# Altium schematic symbol library DEV_Modules.SchLib: 2 symbols
Pins are listed as number, name and electrical type; pins without a type are passive.

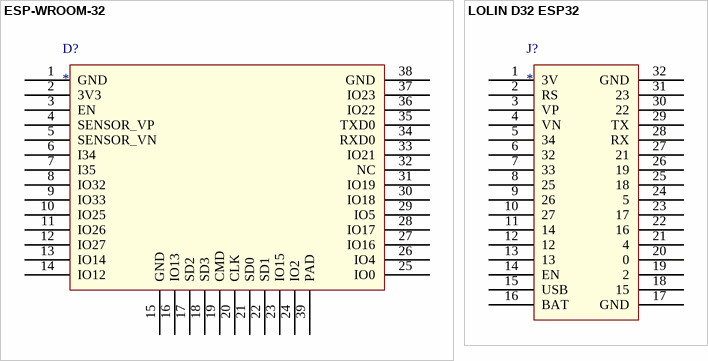
[diagram p0: symbols ESP-WROOM-32 to LOLIN D32 ESP32]

## ESP-WROOM-32
designator D?
ESP32 Module
footprint ESP-WROOM-32 (OEM_Module)
pins: 1 GND, 2 3V3, 3 EN, 4 SENSOR_VP, 5 SENSOR_VN, 6 I34, 7 I35, 8 IO32, 9 IO33, 10 IO25, 11 IO26, 12 IO27, 13 IO14, 14 IO12, 15 GND, 16 IO13, 17 SD2, 18 SD3, 19 CMD, 20 CLK, 21 SD0, 22 SD1, 23 IO15, 24 IO2, 25 IO0, 26 IO4, 27 IO16, 28 IO17, 29 IO5, 30 IO18, 31 IO19, 32 NC, 33 IO21, 34 RXD0, 35 TXD0, 36 IO22, 37 IO23, 38 GND, 39 PAD

## LOLIN D32 ESP32
designator J?
pins: 1 3V, 2 RS, 3 VP, 4 VN, 5 34, 6 32, 7 33, 8 25, 9 26, 10 27, 11 14, 12, 13, 14 EN, 15 USB, 16 BAT, 17 GND, 18 15, 19 2, 20 0, 21 4, 22 16, 23 17, 24 5, 25 18, 26 19, 27 21, 28 RX, 29 TX, 30 22, 31 23, 32 GND